# Altium footprint library AB0010.PcbLib: 1 footprints
Each footprint in its own frame and in the unit in brackets; x right, y up, seen from the top. Pads: shape width x height; smd on the part's side, far side on the other; paste and mask are expansions set on the pad; w line width, h text height; cw(c..) or ccw(c..) is an arc to the next point about the centre after c.
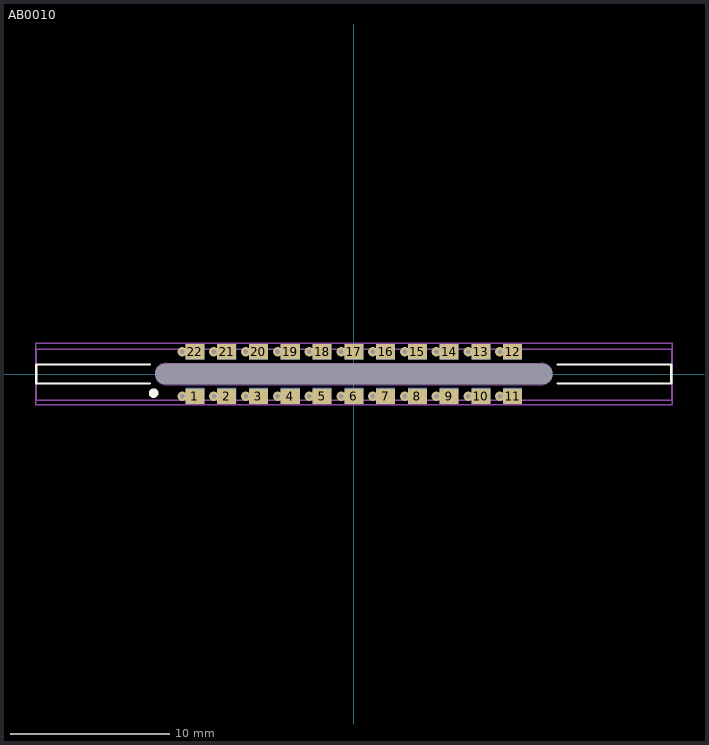
[diagram p0: the footprint, top view; thin cyan lines are the x and y axes]

## AB0010 [mm] "Body 40X1.2mm High 8.5mm"
height 8.5
pads (23):
  round 0 hole 1.3 slot 25 at 0 deg unplated: 0(0,0)
  rect 1.2x1 smd: 1(-10,-1.4) 2(-8,-1.4) 3(-6,-1.4) 4(-4,-1.4) 5(-2,-1.4) 6(0,-1.4) 7(2,-1.4) 8(4,-1.4) 9(6,-1.4) 10(8,-1.4) 11(10,-1.4) 12(10,1.4) 13(8,1.4) 14(6,1.4) 15(4,1.4) 16(2,1.4) 17(0,1.4) 18(-2,1.4) 19(-4,1.4) 20(-6,1.4) 21(-8,1.4) 22(-10,1.4)
via -10.8,1.4 diameter 0.6 hole 0.3
via -8.8,1.4 diameter 0.6 hole 0.3
via -6.8,1.4 diameter 0.6 hole 0.3
via -4.8,1.4 diameter 0.6 hole 0.3
via -2.8,1.4 diameter 0.6 hole 0.3
via -0.8,1.4 diameter 0.6 hole 0.3
via 1.2,1.4 diameter 0.6 hole 0.3
via 3.2,1.4 diameter 0.6 hole 0.3
via 5.2,1.4 diameter 0.6 hole 0.3
via 7.2,1.4 diameter 0.6 hole 0.3
via 9.2,1.4 diameter 0.6 hole 0.3
via -10.8,-1.4 diameter 0.6 hole 0.3
via -8.8,-1.4 diameter 0.6 hole 0.3
via -6.8,-1.4 diameter 0.6 hole 0.3
via -4.8,-1.4 diameter 0.6 hole 0.3
via -2.8,-1.4 diameter 0.6 hole 0.3
via -0.8,-1.4 diameter 0.6 hole 0.3
via 1.2,-1.4 diameter 0.6 hole 0.3
via 3.2,-1.4 diameter 0.6 hole 0.3
via 5.2,-1.4 diameter 0.6 hole 0.3
via 7.2,-1.4 diameter 0.6 hole 0.3
via 9.2,-1.4 diameter 0.6 hole 0.3
Bottom Layer:
  rectangle: -10.595,-1.843 -9.395,-0.843
  rectangle: -8.596,-1.843 -7.396,-0.843
  rectangle: -6.597,-1.843 -5.397,-0.843
  rectangle: -4.598,-1.843 -3.398,-0.843
  rectangle: -2.599,-1.843 -1.399,-0.843
  rectangle: -0.6,-1.843 0.6,-0.843
  rectangle: 1.399,-1.843 2.599,-0.843
  rectangle: 3.398,-1.843 4.598,-0.843
  rectangle: 5.397,-1.843 6.597,-0.843
  rectangle: 7.396,-1.843 8.596,-0.843
  rectangle: 9.395,-1.843 10.595,-0.843
  rectangle: 9.395,0.894 10.595,1.894
  rectangle: 7.396,0.894 8.596,1.894
  rectangle: 5.397,0.894 6.597,1.894
  rectangle: 3.398,0.894 4.598,1.894
  rectangle: 1.399,0.894 2.599,1.894
  rectangle: -0.6,0.894 0.6,1.894
  rectangle: -2.599,0.894 -1.399,1.894
  rectangle: -4.598,0.894 -3.398,1.894
  rectangle: -6.597,0.894 -5.397,1.894
  rectangle: -8.596,0.894 -7.396,1.894
  rectangle: -10.595,0.894 -9.395,1.894
Top Overlay:
  circle w0.3: c-12.6,-1.2 r0.152
  lines w0.152: -12.827,-0.6 -19.99,-0.6 -19.99,0.6 -12.827,0.6 ; 12.827,-0.6 19.99,-0.6 19.99,0.6 12.827,0.6
Mechanical 1:
  lines w0.05: -12.497,0.025 cw(c-11.836,0.025) -11.836,0.686 11.684,0.686 11.811,0.686 cw(c11.811,0) 12.497,0 cw(c11.811,0) 11.811,-0.686 -11.786,-0.686 cw(c-11.786,0.025) -12.497,0.025
Mechanical 13:
  lines w0.1: -19.987,-1.641 20.013,-1.641 20.013,1.559 -19.987,1.559 -19.987,-1.641
Mechanical 15:
  lines w0.1: -20.013,-1.944 -20.013,1.944 ; -20.013,-1.945 20.039,-1.945 20.039,1.945 -20.013,1.945
3D body: height 2.1, standoff -8.9, extent -19.975,-1.59 20.025,1.61